# Altium schematic symbol library CSD18532.SchLib: 1 symbol
Pins are listed as number, name and electrical type; pins without a type are passive.

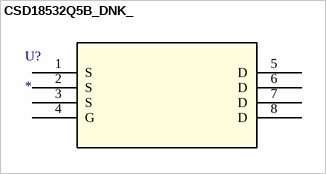
[diagram p0: symbol CSD18532Q5B_DNK_]

## CSD18532Q5B_DNK_
designator U?
60-V, N-Channel NexFET™ Power MOSFET; Manufacturer_Part_Number: csd18532q5b_dnk_8; Vendor: TEXAS INSTRUMENTS; RefDes: RefDes; Type: DEV; Value: Value
footprint DNK8
pins: 1 S, 2 S, 3 S, 4 G, 5 D, 6 D, 7 D, 8 D